# Altium footprint library fastic_readout.PcbLib: 28 footprints (part 2 of 2)
Each footprint in its own frame and in the unit in brackets; x right, y up, seen from the top. Pads: shape width x height; smd on the part's side, far side on the other; paste and mask are expansions set on the pad; w line width, h text height; cw(c..) or ccw(c..) is an arc to the next point about the centre after c.
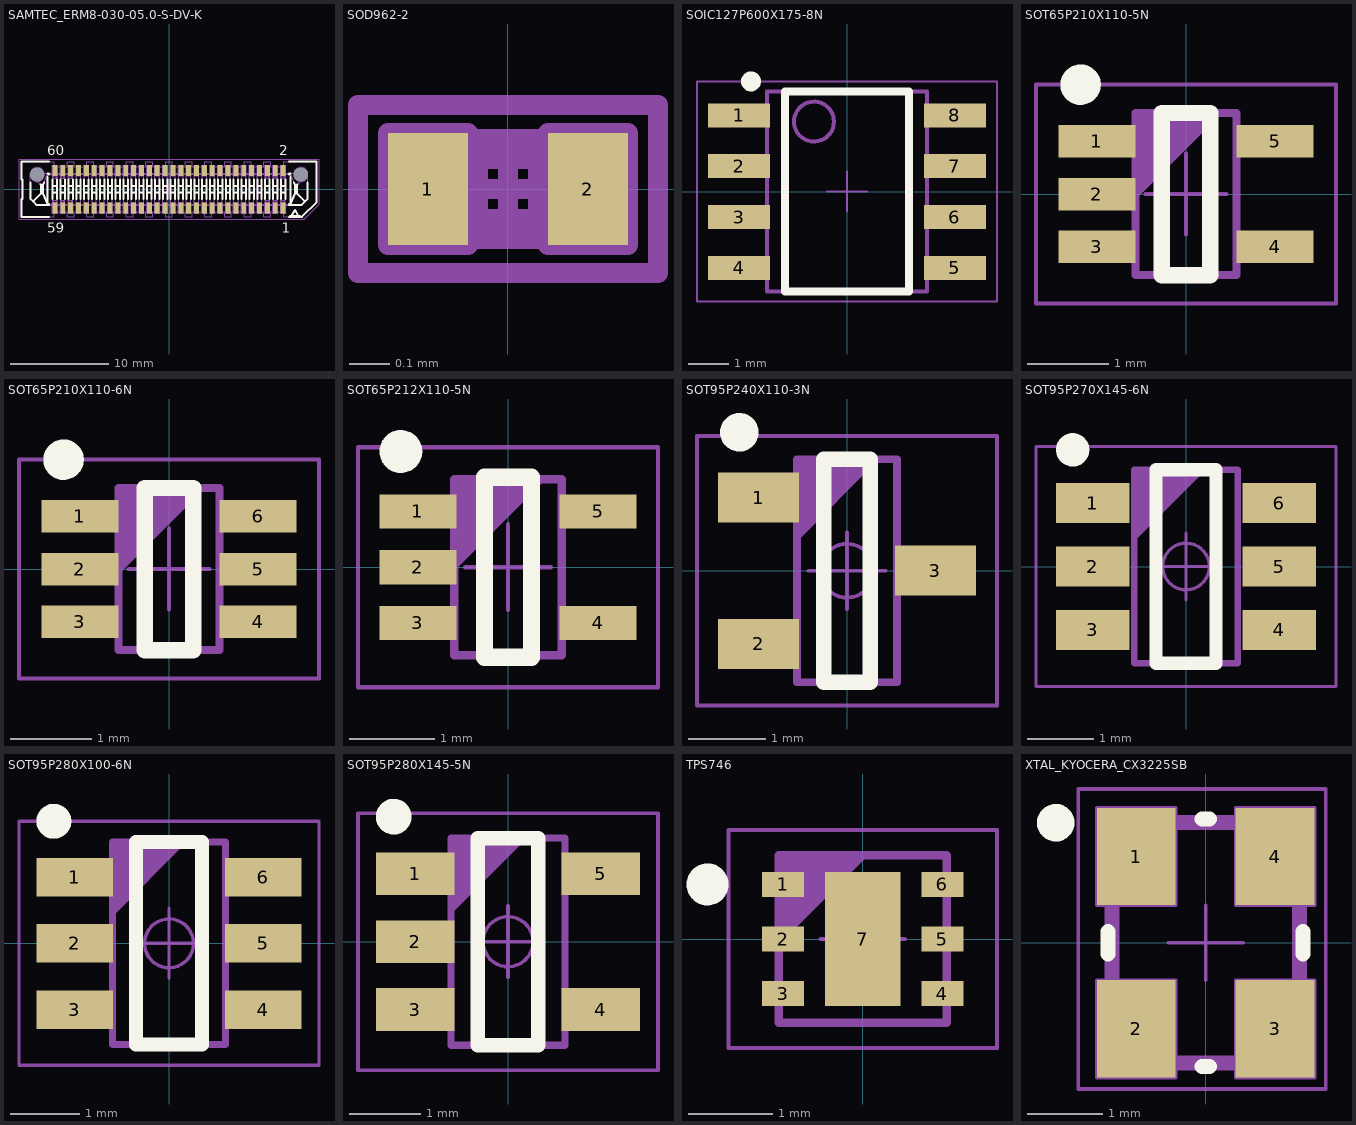
[diagram p1: the footprints below, top view; thin cyan lines are the x and y axes]

## SAMTEC_ERM8-030-05.0-S-DV-K [mm]
pads (62):
  rect 0.5x1.1 smd: 1(11.6,-1.9) 2(11.6,1.9) 3(10.8,-1.9) 4(10.8,1.9) 5(10,-1.9) 6(10,1.9) 7(9.2,-1.9) 8(9.2,1.9) 9(8.4,-1.9) 10(8.4,1.9) 11(7.6,-1.9) 12(7.6,1.9) 13(6.8,-1.9) 14(6.8,1.9) 15(6,-1.9) 16(6,1.9) 17(5.2,-1.9) 18(5.2,1.9) 19(4.4,-1.9) 20(4.4,1.9) 21(3.6,-1.9) 22(3.6,1.9) 23(2.8,-1.9) 24(2.8,1.9) 25(2,-1.9) 26(2,1.9) 27(1.2,-1.9) 28(1.2,1.9) 29(0.4,-1.9) 30(0.4,1.9) 31(-0.4,-1.9) 32(-0.4,1.9) 33(-1.2,-1.9) 34(-1.2,1.9) 35(-2,-1.9) 36(-2,1.9) 37(-2.8,-1.9) 38(-2.8,1.9) 39(-3.6,-1.9) 40(-3.6,1.9) 41(-4.4,-1.9) 42(-4.4,1.9) 43(-5.2,-1.9) 44(-5.2,1.9) 45(-6,-1.9) 46(-6,1.9) 47(-6.8,-1.9) 48(-6.8,1.9) 49(-7.6,-1.9) 50(-7.6,1.9) 51(-8.4,-1.9) 52(-8.4,1.9) 53(-9.2,-1.9) 54(-9.2,1.9) 55(-10,-1.9) 56(-10,1.9) 57(-10.8,-1.9) 58(-10.8,1.9) 59(-11.6,-1.9) 60(-11.6,1.9)
  round 0.5 hole 1.45 unplated mask+0.475: 61(-13.4,1.5) 62(13.4,1.5)
Top Overlay:
  drawing of 168 lines, arcs and shapes, not listed
  text "2" at 11.225,3.45 h1
  text "60" at -12.358,3.45 h1
  text "1" at 11.475,-4.4 h1
  text "59" at -12.394,-4.4 h1
Mechanical 8:
  drawing of 374 lines, arcs and shapes, not listed
Mechanical 14:
  drawing of 510 lines, arcs and shapes, not listed
  text "2" at 11.225,3.45 h1
  text "60" at -12.358,3.45 h1
  text "1" at 11.475,-4.4 h1
  text "59" at -12.394,-4.4 h1
Mechanical 15:
  lines w0.05: -15.25,-3.05 13.75,-3.05 15.25,-1.55 15.25,3.05 -15.25,3.05 -15.25,-3.05
3D body "SAMTEC_ERM8-030-05.0-S-DV-K.stp": height 8.91, standoff -1.06, extent -15,-2.8 15,2.8

## SOD962-2 [mm]
pads (2):
  rect 0.2x0.28 smd paste-0.025 mask-0.025: 1(-0.2,0) 2(0.2,0)
Mechanical 8:
  lines w0.05: 0,-0.1 0,0 ; 0,0.1 0,0 ; -0.3,-0.14 -0.3,0.14 ; -0.3,-0.14 -0.1,-0.14 -0.1,0.14 -0.3,0.14 ; -0.3,-0.14 -0.1,0 ; -0.3,0.14 -0.1,0 ; -0.1,0 0,0 ; 0,0 0.1,0 ; 0.1,0 0.3,-0.14 ; 0.1,0 0.3,0.14 ; 0.3,-0.14 0.1,-0.14 0.1,0.14 0.3,0.14 ; 0.3,-0.14 0.3,0.14
Mechanical 14:
  lines w0.1: -0.1,-0.1 -0.1,0.1 ; 0.1,-0.1 0.1,0.1 ; -0.2,-0.1 -0.2,0.1 0.2,0.1 0.2,-0.1 -0.2,-0.1
Mechanical 15:
  lines w0.05: -0.375,-0.21 -0.375,0.21 0.375,0.21 0.375,-0.21 -0.375,-0.21
3D body "RESC0402X15N.stp": height 0.15, standoff 0, extent -0.2,-0.1 0.2,0.1

## SOIC127P600X175-8N [mm]
pads (8):
  rect 1.55x0.6 smd: 1(-2.7,1.905) 2(-2.7,0.635) 3(-2.7,-0.635) 4(-2.7,-1.905) 5(2.7,-1.905) 6(2.7,-0.635) 7(2.7,0.635) 8(2.7,1.905)
Top Overlay:
  circle w0.25: c-2.4,2.755 r0.125
  lines w0.2: -1.55,-2.5 -1.55,2.5 1.55,2.5 1.55,-2.5 -1.55,-2.5
Mechanical 14:
  circle w0.1: c-0.825,1.75 r0.5
  lines w0.1: -2,-2.5 -2,2.5 2,2.5 2,-2.5 -2,-2.5
Mechanical 15:
  lines w0.05: -0.5,0 0.5,0 ; 0,-0.5 0,0.5 ; -3.75,-2.75 -3.75,2.75 3.75,2.75 3.75,-2.75 -3.75,-2.75
3D body "SOIC127P600X175-8N.stp": height 1.75, standoff 0, extent -3.1,-2.5 3.1,2.5

## SOT65P210X110-5N [mm]
pads (5):
  rect 0.95x0.4 smd: 1(-1.1,0.65) 2(-1.1,0) 3(-1.1,-0.65) 4(1.1,-0.65) 5(1.1,0.65)
Top Overlay:
  circle w0.25: c-1.3,1.35 r0.125
  lines w0.2: -0.3,-1 0.3,-1 0.3,1 -0.3,1 -0.3,-1
Mechanical 14:
  lines w0.1: -0.625,0 0.375,1 ; -0.625,0.1 0.275,1 ; -0.625,0.2 0.175,1 ; -0.625,0.3 0.075,1 ; -0.625,0.4 -0.025,1 ; -0.625,0.5 -0.125,1 ; -0.625,0.6 -0.225,1 ; -0.625,0.7 -0.325,1 ; -0.625,0.8 -0.425,1 ; -0.625,0.9 -0.525,1 ; -0.625,-1 0.625,-1 0.625,1 -0.625,1 -0.625,-1
Mechanical 15:
  lines w0.05: -0.5,0 0.5,0 ; 0,-0.5 0,0.5 ; -1.85,-1.35 1.85,-1.35 1.85,1.35 -1.85,1.35 -1.85,-1.35
3D body "SOT65P210X110-5N.stp": height 1.1, standoff 0, extent -1.2,-1.1 1.2,1.1

## SOT65P210X110-6N [mm]
pads (6):
  rect 0.95x0.4 smd: 1(-1.1,0.65) 2(-1.1,0) 3(-1.1,-0.65) 4(1.1,-0.65) 5(1.1,0) 6(1.1,0.65)
Top Overlay:
  circle w0.25: c-1.3,1.35 r0.125
  lines w0.2: -0.3,-1 -0.3,1 0.3,1 0.3,-1 -0.3,-1
Mechanical 14:
  lines w0.1: -0.625,0 0.375,1 ; -0.625,0.1 0.275,1 ; -0.625,0.2 0.175,1 ; -0.625,0.3 0.075,1 ; -0.625,0.4 -0.025,1 ; -0.625,0.5 -0.125,1 ; -0.625,0.6 -0.225,1 ; -0.625,0.7 -0.325,1 ; -0.625,0.8 -0.425,1 ; -0.625,0.9 -0.525,1 ; -0.625,-1 -0.625,1 0.625,1 0.625,-1 -0.625,-1
Mechanical 15:
  lines w0.05: -0.5,0 0.5,0 ; 0,-0.5 0,0.5 ; -1.85,-1.35 -1.85,1.35 1.85,1.35 1.85,-1.35 -1.85,-1.35
3D body "SOT65P210X110-6N.stp": height 1.1, standoff 0, extent -1.2,-1.1 1.2,1.1

## SOT65P212X110-5N [mm]
pads (5):
  rect 0.9x0.4 smd: 1(-1.05,0.65) 2(-1.05,0) 3(-1.05,-0.65) 4(1.05,-0.65) 5(1.05,0.65)
Top Overlay:
  circle w0.25: c-1.25,1.35 r0.125
  lines w0.2: -0.275,-1.05 -0.275,1.05 0.275,1.05 0.275,-1.05 -0.275,-1.05
Mechanical 14:
  lines w0.1: -0.625,0.025 0.375,1.025 ; -0.625,0.125 0.275,1.025 ; -0.625,0.225 0.175,1.025 ; -0.625,0.325 0.075,1.025 ; -0.625,0.425 -0.025,1.025 ; -0.625,0.525 -0.125,1.025 ; -0.625,0.625 -0.225,1.025 ; -0.625,0.725 -0.325,1.025 ; -0.625,0.825 -0.425,1.025 ; -0.625,0.925 -0.525,1.025 ; -0.625,-1.025 -0.625,1.025 0.625,1.025 0.625,-1.025 -0.625,-1.025
Mechanical 15:
  lines w0.05: -0.5,0 0.5,0 ; 0,-0.5 0,0.5 ; -1.75,-1.4 -1.75,1.4 1.75,1.4 1.75,-1.4 -1.75,-1.4
3D body "SOT65P212X110-5N.stp": height 1.1, standoff 0, extent -1.2,-1.1 1.2,1.1

## SOT95P240X110-3N [mm]
pads (3):
  rect 1.05x0.65 smd: 1(-1.15,0.95) 2(-1.15,-0.95) 3(1.15,0)
Top Overlay:
  circle w0.25: c-1.4,1.8 r0.125
  lines w0.2: -0.3,-1.45 -0.3,1.45 0.3,1.45 0.3,-1.45 -0.3,-1.45
Mechanical 14:
  lines w0.1: -0.65,0.45 0.35,1.45 ; -0.65,0.55 0.25,1.45 ; -0.65,0.65 0.15,1.45 ; -0.65,0.75 0.05,1.45 ; -0.65,0.85 -0.05,1.45 ; -0.65,0.95 -0.15,1.45 ; -0.65,1.05 -0.25,1.45 ; -0.65,1.15 -0.35,1.45 ; -0.65,1.25 -0.45,1.45 ; -0.65,1.35 -0.55,1.45 ; -0.65,-1.45 0.65,-1.45 0.65,1.45 -0.65,1.45 -0.65,-1.45
Mechanical 15:
  circle w0.05: c0,0 r0.35
  lines w0.05: -0.5,0 0.5,0 ; 0,-0.5 0,0.5 ; -1.95,-1.75 1.95,-1.75 1.95,1.75 -1.95,1.75 -1.95,-1.75
3D body "SOT95P240X110-3N.stp": height 1.1, standoff 0, extent -1.25,-1.5 1.25,1.5

## SOT95P270X145-6N [mm]
pads (6):
  rect 1.1x0.6 smd: 1(-1.4,0.95) 2(-1.4,0) 3(-1.4,-0.95) 4(1.4,-0.95) 5(1.4,0) 6(1.4,0.95)
Top Overlay:
  circle w0.25: c-1.7,1.75 r0.125
  lines w0.2: -0.45,-1.45 0.45,-1.45 0.45,1.45 -0.45,1.45 -0.45,-1.45
Mechanical 14:
  lines w0.1: -0.775,0.45 0.225,1.45 ; -0.775,0.55 0.125,1.45 ; -0.775,0.65 0.025,1.45 ; -0.775,0.75 -0.075,1.45 ; -0.775,0.85 -0.175,1.45 ; -0.775,0.95 -0.275,1.45 ; -0.775,1.05 -0.375,1.45 ; -0.775,1.15 -0.475,1.45 ; -0.775,1.25 -0.575,1.45 ; -0.775,1.35 -0.675,1.45 ; -0.775,-1.45 0.775,-1.45 0.775,1.45 -0.775,1.45 -0.775,-1.45
Mechanical 15:
  circle w0.05: c0,0 r0.35
  lines w0.05: -0.5,0 0.5,0 ; 0,-0.5 0,0.5 ; -2.25,-1.8 2.25,-1.8 2.25,1.8 -2.25,1.8 -2.25,-1.8
3D body "SOT95P270X145-6N.stp": height 1.45, standoff 0.01, extent -1.351,-1.45 1.351,1.45

## SOT95P280X100-6N [mm]
pads (6):
  rect 1.1x0.55 smd: 1(-1.35,0.95) 2(-1.35,0) 3(-1.35,-0.95) 4(1.35,-0.95) 5(1.35,0) 6(1.35,0.95)
Top Overlay:
  circle w0.25: c-1.65,1.75 r0.125
  lines w0.2: -0.475,-1.45 -0.475,1.45 0.475,1.45 0.475,-1.45 -0.475,-1.45
Mechanical 14:
  lines w0.1: -0.812,0.45 0.188,1.45 ; -0.812,0.55 0.088,1.45 ; -0.812,0.65 -0.012,1.45 ; -0.812,0.75 -0.112,1.45 ; -0.812,0.85 -0.212,1.45 ; -0.812,0.95 -0.312,1.45 ; -0.812,1.05 -0.412,1.45 ; -0.812,1.15 -0.512,1.45 ; -0.812,1.25 -0.612,1.45 ; -0.812,1.35 -0.712,1.45 ; -0.812,-1.45 -0.812,1.45 0.812,1.45 0.812,-1.45 -0.812,-1.45
Mechanical 15:
  circle w0.05: c0,0 r0.35
  lines w0.05: -0.5,0 0.5,0 ; 0,-0.5 0,0.5 ; -2.15,-1.75 -2.15,1.75 2.15,1.75 2.15,-1.75 -2.15,-1.75
3D body "SOT95P280X100-6N.stp": height 1, standoff 0, extent -1.4,-1.5 1.4,1.5

## SOT95P280X145-5N [mm]
pads (5):
  rect 1.1x0.6 smd: 1(-1.3,0.95) 2(-1.3,0) 3(-1.3,-0.95) 4(1.3,-0.95) 5(1.3,0.95)
Top Overlay:
  circle w0.25: c-1.6,1.75 r0.125
  lines w0.2: -0.425,-1.45 -0.425,1.45 0.425,1.45 0.425,-1.45 -0.425,-1.45
Mechanical 14:
  lines w0.1: -0.8,0.45 0.2,1.45 ; -0.8,0.55 0.1,1.45 ; -0.8,0.65 0,1.45 ; -0.8,0.75 -0.1,1.45 ; -0.8,0.85 -0.2,1.45 ; -0.8,0.95 -0.3,1.45 ; -0.8,1.05 -0.4,1.45 ; -0.8,1.15 -0.5,1.45 ; -0.8,1.25 -0.6,1.45 ; -0.8,1.35 -0.7,1.45 ; -0.8,-1.45 -0.8,1.45 0.8,1.45 0.8,-1.45 -0.8,-1.45
Mechanical 15:
  circle w0.05: c0,0 r0.35
  lines w0.05: -0.5,0 0.5,0 ; 0,-0.5 0,0.5 ; -2.1,-1.8 -2.1,1.8 2.1,1.8 2.1,-1.8 -2.1,-1.8
3D body "SOT95P280X145-5N.stp": height 1.45, standoff 0, extent -1.4,-1.5 1.4,1.5

## TPS746 [mm]
pads (7):
  rect 0.5x0.3 smd: 1(-0.95,0.65) 2(-0.95,0) 3(-0.95,-0.65) 4(0.95,-0.65) 5(0.95,0) 6(0.95,0.65)
  rect 0.9x1.6 smd: 7(0,0)
Top Overlay:
  circle w0.25: c-1.85,0.65 r0.125
Top Paste:
  region: -0.308,0.608 0.307,0.608 0.307,-0.607 -0.308,-0.607
Mechanical 14:
  lines w0.1: -1,0 0,1 ; -1,0.1 -0.1,1 ; -1,0.2 -0.2,1 ; -1,0.3 -0.3,1 ; -1,0.4 -0.4,1 ; -1,0.5 -0.5,1 ; -1,0.6 -0.6,1 ; -1,0.7 -0.7,1 ; -1,0.8 -0.8,1 ; -1,0.9 -0.9,1 ; -1,-1 -1,1 1,1 1,-1 -1,-1
Mechanical 15:
  circle w0.05: c0,0 r0.35
  lines w0.05: -0.5,0 0.5,0 ; 0,-0.5 0,0.5 ; -1.6,-1.3 1.6,-1.3 1.6,1.3 -1.6,1.3 -1.6,-1.3
3D body "SON65P200X200X80-7N-R110X170.stp": height 0.77, standoff 0, extent -1.05,-1.05 1.05,1.05

## XTAL_KYOCERA_CX3225SB [mm]
pads (4):
  rect 1.05x1.3 smd: 1(-0.925,1.15) 2(-0.925,-1.15) 3(0.925,-1.15) 4(0.925,1.15)
Top Overlay:
  circle w0.25: c-2,1.6 r0.125
  lines w0.2: -1.3,-0.15 -1.3,0.15 ; -0.05,-1.65 0.05,-1.65 ; -0.05,1.65 0.05,1.65 ; 1.3,-0.15 1.3,0.15
Mechanical 8:
  lines w0.05: -1.425,-1.15 -0.925,-1.15 ; -1.425,1.15 -0.925,1.15 ; -0.925,-1.65 -0.925,-1.15 ; -0.925,-0.65 -0.925,-1.15 ; -0.925,0.65 -0.925,1.15 ; -0.925,1.65 -0.925,1.15 ; -0.5,0 0,0 ; -0.425,-1.15 -0.925,-1.15 ; -0.425,1.15 -0.925,1.15 ; 0,-0.5 0,0 ; 0,0.5 0,0 ; 0.425,-1.15 0.925,-1.15 ; 0.425,1.15 0.925,1.15 ; 0.5,0 0,0 ; 0.925,-1.65 0.925,-1.15 ; 0.925,-0.65 0.925,-1.15 ; 0.925,0.65 0.925,1.15 ; 0.925,1.65 0.925,1.15 ; 1.425,-1.15 0.925,-1.15 ; 1.425,1.15 0.925,1.15 ; -1.45,-1.8 -1.45,-0.5 -0.4,-0.5 -0.4,-1.8 -1.45,-1.8 ; -1.45,0.5 -0.4,0.5 -0.4,1.8 -1.45,1.8 -1.45,0.5 ; 0.4,-1.8 0.4,-0.5 1.45,-0.5 1.45,-1.8 0.4,-1.8 ; 0.4,0.5 0.4,1.8 1.45,1.8 1.45,0.5 0.4,0.5
Mechanical 14:
  lines w0.1: -1.3,-1.45 cw(c-1.3,-1.65) -1.1,-1.65 1.1,-1.65 cw(c1.3,-1.65) 1.3,-1.45 1.3,1.45 cw(c1.3,1.65) 1.1,1.65 -1.1,1.65 cw(c-1.3,1.65) -1.3,1.45 -1.3,-1.45 ; -1.2,-1.15 ccw(c-0.8,-1.15) -0.8,-1.55 0.8,-1.55 ccw(c0.8,-1.15) 1.2,-1.15 1.2,1.15 ccw(c0.8,1.15) 0.8,1.55 -0.8,1.55 ccw(c-0.8,1.15) -1.2,1.15 -1.2,-1.15
Mechanical 15:
  lines w0.05: -1.7,-1.95 1.6,-1.95 1.6,2.05 -1.7,2.05 -1.7,-1.95
3D body "XTAL_KYOCERA_CX3225SB.stp": height 0.6, standoff 0, extent -1.3,-1.65 1.3,1.65